# EAGLE library part DMS-BRÜCKENSTÄRKER_MBA-1000/X (library LW_DUB)
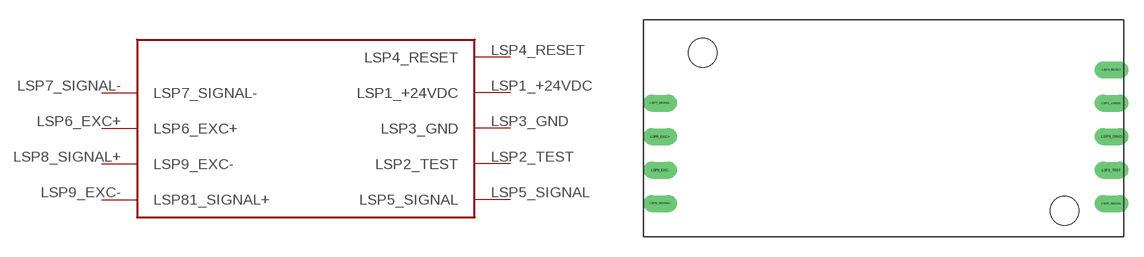
[diagram p5: symbol with the pads of DMS-BRÜCKENSTÄRKER_MBA-1000/X; footprint DMS-BRÜCKENSTÄRKER_MBA-1000/X]

Designator prefix -

## DMS-BRÜCKENSTÄRKER_MBA-1000/X  [DMS-BRÜCKENSTÄRKER_MBA-1000/X]
LSP1_+24VDC  LSP1_+24VDC
LSP2_TEST  LSP2_TEST
LSP3_GND  LSP3_GND
LSP4_RESET  LSP4_RESET
LSP5_SIGNAL  LSP5_SIGNAL
LSP6_EXC+  LSP6_EXC+
LSP7_SIGNAL-  LSP7_SIGNAL-
LSP8_SIGNAL+  LSP9_EXC-
LSP9_EXC-  LSP81_SIGNAL+

## Footprint DMS-BRÜCKENSTÄRKER_MBA-1000/X (pad centres in mm)
drill 0.8 long: LSP1_+24VDC 35.56,10.16; LSP2_TEST 35.56,5.08; LSP3_GND 35.56,7.62; LSP4_RESET 35.56,12.7; LSP5_SIGNAL 35.56,2.54; LSP6_EXC+ 1.27,7.62; LSP7_SIGNAL- 1.27,10.16; LSP8_SIGNAL+ 1.27,2.54; LSP9_EXC- 1.27,5.08
hole 2.2 at 4.5,14
hole 2.2 at 32,2